# EAGLE library part PINHEAD-1_PINHD-1X6 (library Blueberry Pi)
PIN HEADER
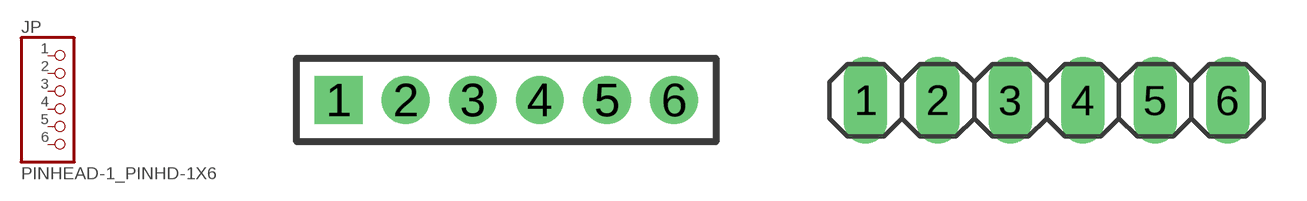
[diagram p15: symbol with the pads of PINHEAD-1_1X06M; footprints PINHEAD-1_1X06M, PINHEAD-1_1X06]

Designator prefix JP

## PINHEAD-1_PINHD-1X6_2.00  [PINHEAD-1_1X06M]
1  1  pas
2  2  pas
3  3  pas
4  4  pas
5  5  pas
6  6  pas

## PINHEAD-1_PINHD-1X6_2.54  [PINHEAD-1_1X06]
Pads as for PINHEAD-1_1X06M

## PINHEAD-1_PINHD-1X6_2.54-90°  [PINHEAD-1_1X06/90]
Pads as for PINHEAD-1_1X06M

## PINHEAD-1_PINHD-1X6_2.54-SMD  [PINHEAD-1_1X06SMD]
Pads as for PINHEAD-1_1X06M

## PINHEAD-1_PINHD-1X6_2.54-SMD-90°  [PINHEAD-1_1X06SMD/90]
Pads as for PINHEAD-1_1X06M

## Footprint PINHEAD-1_1X06M (pad centres in mm)
PIN HEADER - 2
drill 0.914 square: 1 -5,0
drill 0.914: 2 -3,0; 3 -1,0; 4 1,0; 5 3,0; 6 5,0

## Footprint PINHEAD-1_1X06 (pad centres in mm)
PIN HEADER - 2.54
drill 1.016 long: 1 -6.35,0; 2 -3.81,0; 3 -1.27,0; 4 1.27,0; 5 3.81,0; 6 6.35,0

## Footprint PINHEAD-1_1X06/90 (pad centres in mm)
PIN HEADER - 2.54 90°
drill 1.016 long: 1 -6.35,-3.81; 2 -3.81,-3.81; 3 -1.27,-3.81; 4 1.27,-3.81; 5 3.81,-3.81; 6 6.35,-3.81

## Footprint PINHEAD-1_1X06SMD (pad centres in mm)
PIN HEADER - 2.54 SMD
smd 1.016 x 3.302: 1 -1.27,1.27; 2 1.27,-1.27; 3 3.81,1.27; 4 6.35,-1.27; 5 8.89,1.27; 6 11.43,-1.27

## Footprint PINHEAD-1_1X06SMD/90 (pad centres in mm)
PIN HEADER - 2.54 90°
smd 1.016 x 1.778: 1 -1.27,-5.08; 2 1.27,-5.08; 3 3.81,-5.08; 4 6.35,-5.08; 5 8.89,-5.08; 6 11.43,-5.08